# Altium footprint library vishay-package.PcbLib: 3 footprints
Each footprint in its own frame and in the unit in brackets; x right, y up, seen from the top. Pads: shape width x height; smd on the part's side, far side on the other; paste and mask are expansions set on the pad; w line width, h text height; cw(c..) or ccw(c..) is an arc to the next point about the centre after c.
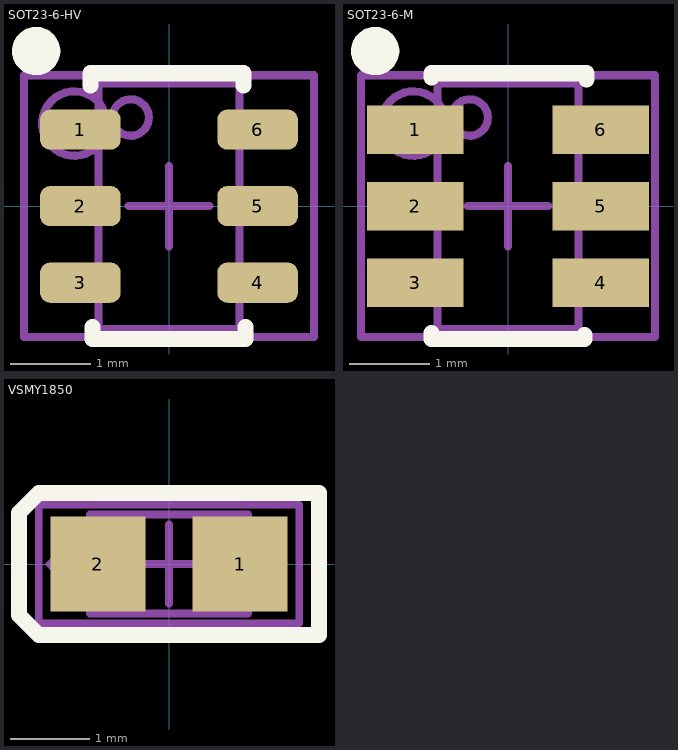
[diagram p0: the footprints below, top view; thin cyan lines are the x and y axes]

## SOT23-6-HV [mm] "SOT23, 6-Leads, Body 3.0x3.0mm (max), Pitch 0.95mm, IPC High Voltage"
height 1.45
pads (6):
  rrect50% 1x0.5 smd: 1(-1.1,0.95) 2(-1.1,0) 3(-1.1,-0.95) 4(1.1,-0.95) 5(1.1,0) 6(1.1,0.95)
Top Overlay:
  circle w0.3: c-1.65,1.925 r0.15
  lines w0.2: -0.975,1.5 -0.975,1.65 0.925,1.65 0.925,1.5 ; -0.95,-1.5 -0.95,-1.65 0.95,-1.65 0.95,-1.5
Mechanical 13:
  circle w0.1: c-0.476,1.1 r0.226
  lines w0.1: -0.9,1.525 0.85,1.525 ; -0.5,0 0.5,0 ; 0,-0.5 0,0.5 ; -0.875,-1.525 -0.875,1.525 0.875,1.525 0.875,-1.525 -0.875,-1.525
Mechanical 15:
  circle w0.1: c-1.175,1.025 r0.4
  lines w0.1: -1.8,-1.625 -1.8,1.625 1.8,1.625 1.8,-1.625 -1.8,-1.625
  text ".Designator" at -0.25,1.125 h0.5
3D body: height 1, standoff 0, extent -1.17,-1.46 1.17,1.46

## SOT23-6-M [mm] "SOT23, 6-Leads, Body 3.0x3.0mm (max), Pitch 0.95mm, IPC Medium Density"
height 1.45
pads (6):
  rect 1.2x0.6 smd: 1(-1.15,0.95) 2(-1.15,0) 3(-1.15,-0.95) 4(1.15,-0.95) 5(1.15,0) 6(1.15,0.95)
Top Overlay:
  circle w0.3: c-1.65,1.925 r0.15
  lines w0.2: -0.95,-1.575 -0.95,-1.65 0.95,-1.65 0.95,-1.6 ; -0.95,1.6 -0.95,1.65 0.975,1.65 0.975,1.575
Mechanical 13:
  circle w0.1: c-0.476,1.1 r0.226
  lines w0.1: -0.5,0 0.5,0 ; 0,-0.5 0,0.5 ; -0.875,-1.525 -0.875,1.525 0.875,1.525 0.875,-1.525 -0.875,-1.525
Mechanical 15:
  circle w0.1: c-1.175,1.025 r0.4
  lines w0.1: -1.825,-1.625 -1.825,1.625 1.825,1.625 1.825,-1.625 -1.825,-1.625
  text ".Designator" at -0.25,1.125 h0.5
3D body: height 1, standoff 0, extent -1.17,-1.46 1.17,1.46

## VSMY1850 [mm] "Chip LED 0805 - Low Density"
height 0.85
pads (2):
  rect 1.2x1.2 smd: 1(0.9,0) 2(-0.9,0)
Top Overlay:
  lines w0.2: -1.9,-0.65 -1.65,-0.9 1.9,-0.9 1.9,0.9 -1.65,0.9 -1.9,0.65 -1.9,-0.65
Mechanical 13:
  lines w0.1: -0.5,0 0.5,0 ; 0,-0.5 0,0.5 ; -1,-0.625 1,-0.625 1,0.625 -1,0.625 -1,-0.625
Mechanical 15:
  region: -1.25,-0.325 -1.575,0 -1.25,0.325
  lines w0.1: -1.65,-0.75 1.65,-0.75 1.65,0.75 -1.65,0.75 -1.65,-0.75
  text ".Designator" at -0.775,-0.275 h0.5
3D body: height 0.4, standoff 0.35, extent -0.95,-0.525 -0.625,0.525
3D body: height 0.4, standoff 0.35, extent -0.425,-0.525 0.95,0.525
3D body: height 0.85, standoff 0.35, extent -1,-0.625 1,0.625
3D body: height 0.35, standoff 0, extent -1,-0.625 1,0.625